# Altium footprint library PcbLib1.PcbLib: 36 footprints (part 3 of 3)
Each footprint in its own frame and in the unit in brackets; x right, y up, seen from the top. Pads: shape width x height; smd on the part's side, far side on the other; paste and mask are expansions set on the pad; w line width, h text height; cw(c..) or ccw(c..) is an arc to the next point about the centre after c.
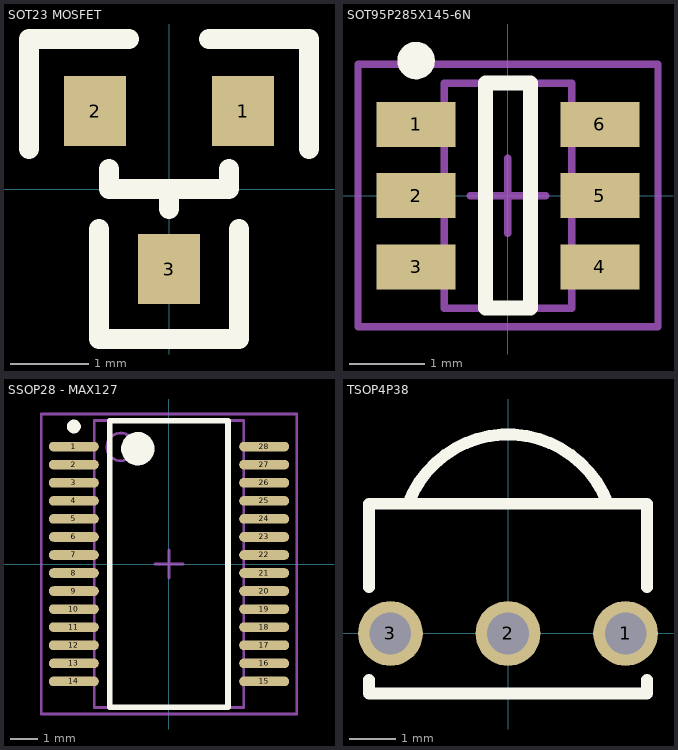
[diagram p2: the footprints below, top view; thin cyan lines are the x and y axes]

## SOT23 MOSFET [mil]
pads (3):
  rect 31x35 smd: 1(37,39) 2(-37,39) 3(0,-40)
Top Overlay:
  lines w10: -70,20 -70,75 -20,75 ; -35,-20 -35,-75 35,-75 35,-20 ; -30,10 -30,0 30,0 30,10 ; 0,-10 0,0 ; 20,75 70,75 70,20

## SOT95P285X145-6N [mm] "SOT23, 6-Leads, Body 3.0x3.0mm (max), Pitch 0.95mm, IPC Medium Density"
height 1.45
pads (6):
  rect 1.05x0.6 smd: 1(-1.225,0.95) 2(-1.225,0) 3(-1.225,-0.95) 4(1.225,-0.95) 5(1.225,0) 6(1.225,0.95)
Top Overlay:
  circle w0.25: c-1.225,1.8 r0.125
  lines w0.2: -0.3,-1.5 0.3,-1.5 0.3,1.5 -0.3,1.5 -0.3,-1.5
Mechanical 13:
  lines w0.1: -0.85,-1.5 -0.85,1.5 0.85,1.5 0.85,-1.5 -0.85,-1.5
Mechanical 15:
  lines w0.1: -0.5,0 0.5,0 ; 0,-0.5 0,0.5 ; -2,-1.75 -2,1.75 2,1.75 2,-1.75 -2,-1.75
3D body: height 1.45, standoff 0.05, extent -0.85,-1.5 0.85,1.5

## SSOP28 - MAX127 [mm] "SOP, 28-Leads, Body 10.3x5.4mm (max), Pitch 0.65mm, IPC Medium Density"
height 1.99
pads (28):
  oval 1.8x0.35 smd: 1(-3.425,4.225) 2(-3.425,3.575) 3(-3.425,2.925) 4(-3.425,2.275) 5(-3.425,1.625) 6(-3.425,0.975) 7(-3.425,0.325) 8(-3.425,-0.325) 9(-3.425,-0.975) 10(-3.425,-1.625) 11(-3.425,-2.275) 12(-3.425,-2.925) 13(-3.425,-3.575) 14(-3.425,-4.225) 15(3.425,-4.225) 16(3.425,-3.575) 17(3.425,-2.925) 18(3.425,-2.275) 19(3.425,-1.625) 20(3.425,-0.975) 21(3.425,-0.325) 22(3.425,0.325) 23(3.425,0.975) 24(3.425,1.625) 25(3.425,2.275) 26(3.425,2.925) 27(3.425,3.575) 28(3.425,4.225)
Top Overlay:
  circle w0.6: c-1.125,4.15 r0.3
  circle w0.25: c-3.425,4.95 r0.125
  lines w0.2: -2.125,-5.15 2.125,-5.15 2.125,5.15 -2.125,5.15 -2.125,-5.15
Mechanical 13:
  circle w0.1: c-1.74,4.215 r0.5
  lines w0.1: -2.69,-5.165 2.69,-5.165 2.69,5.165 -2.69,5.165 -2.69,-5.165
Mechanical 15:
  lines w0.1: -0.5,0 0.5,0 ; 0,-0.5 0,0.5 ; -4.6,-5.4 4.6,-5.4 4.6,5.4 -4.6,5.4 -4.6,-5.4
3D body: height 1.99, standoff 0.1, extent -2.69,-5.165 2.69,5.165

## TSOP4P38 [mm]
pads (3):
  round 1.4 hole 0.9: 1(2.54,0) 2(0,0) 3(-2.54,0)
Top Overlay:
  lines w0.254: -3,-1 -3,-1.3 3,-1.3 3,-1 ; -3,1 -3,2.8 3,2.8 3,1 ; -2.149,2.819 cw(c0,2) 2.149,2.819